# EAGLE library part TYPEC-304-ACP16 (library LARS_409_USB)
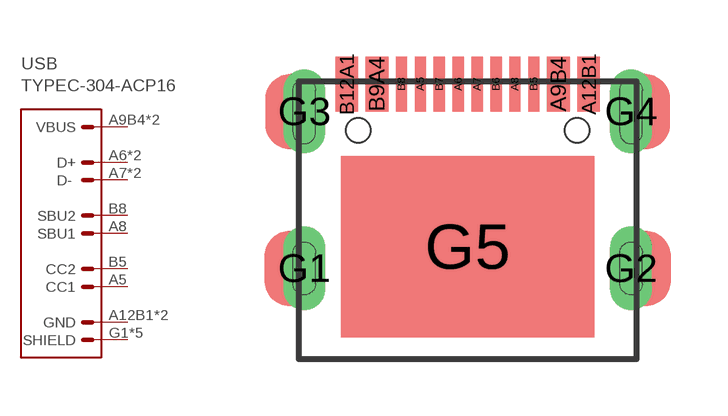
[diagram p2: symbol with the pads of TYPEC-304-ACP16; footprint TYPEC-304-ACP16]

Designator prefix USB

## TYPEC-304-ACP16  [TYPEC-304-ACP16]
A5  CC1  pas
A6  D+  pas
A7  D-   pas
A8  SBU1  pas
A9B4  VBUS  pwr
A12B1  GND  pwr
B5  CC2  pas
B6  D+  pas
B7  D-   pas
B8  SBU2  pas
B9A4  VBUS  pwr
B12A1  GND  pwr
G1  SHIELD  pwr
G2  SHIELD  pwr
G3  SHIELD  pwr
G4  SHIELD  pwr
G5  SHIELD  pwr

## Footprint TYPEC-304-ACP16 (pad centres in mm)
smd 0.3 x 1.45: A5 -1.25,3.6; A6 -0.25,3.6; A7 0.25,3.6; A8 1.25,3.6; B5 1.75,3.6; B6 0.75,3.6; B7 -0.75,3.6; B8 -1.75,3.6
smd 0.6 x 1.45: A9B4 2.4,3.6; A12B1 3.2,3.6; B9A4 -2.4,3.6; B12A1 -3.2,3.6
drill 0.6 pad 1 long: G1 -4.32,-1.275; G2 4.32,-1.275; G3 -4.32,2.875; G4 4.32,2.875
smd 6.69 x 4.79: G5 0,-0.7
hole 0.65 at -2.89,2.375
hole 0.65 at 2.89,2.375